# Altium footprint library INFINEON TSFP-4.PCBLIB: 1 footprints
Each footprint in its own frame and in the unit in brackets; x right, y up, seen from the top. Pads: shape width x height; smd on the part's side, far side on the other; paste and mask are expansions set on the pad; w line width, h text height; cw(c..) or ccw(c..) is an arc to the next point about the centre after c.
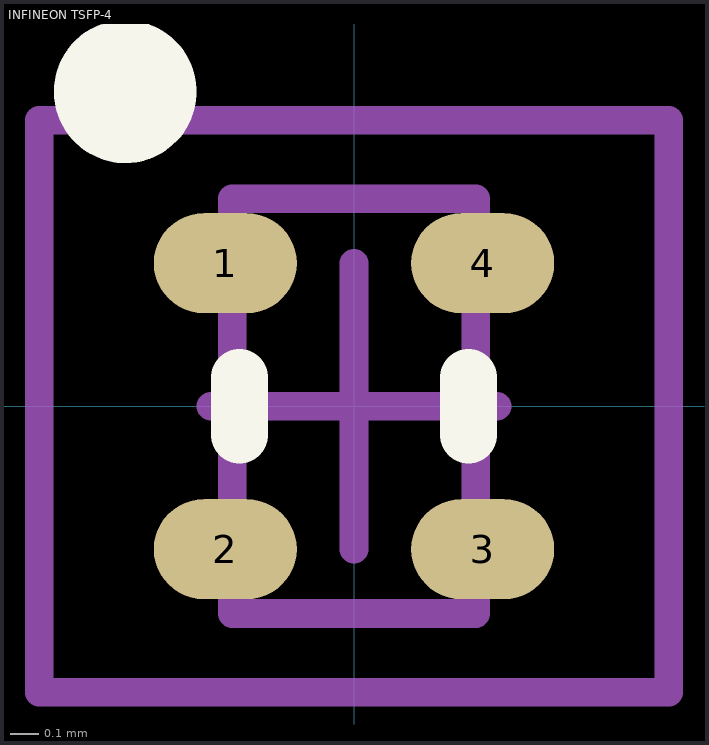
[diagram p0: the footprint, top view; thin cyan lines are the x and y axes]

## INFINEON TSFP-4 [mm] "TSFP, 4-Leads, Body 1.5x0.9mm (max), Pitch 1.00mm, IPC Medium Density"
pads (4):
  oval 0.5x0.35 smd: 1(-0.45,0.5) 2(-0.45,-0.5) 3(0.45,-0.5) 4(0.45,0.5)
Top Overlay:
  circle w0.25: c-0.8,1.1 r0.125
  lines w0.2: -0.4,-0.1 -0.4,0.1 ; 0.4,-0.1 0.4,0.1
Mechanical 13:
  lines w0.1: -0.425,-0.725 -0.425,0.725 0.425,0.725 0.425,-0.725 -0.425,-0.725
Mechanical 15:
  lines w0.1: -0.5,0 0.5,0 ; 0,-0.5 0,0.5 ; -1.1,-1 -1.1,1 1.1,1 1.1,-1 -1.1,-1
3D body "TSFP-4.STEP": height 0.54, standoff 0, extent -0.6,-0.7 0.6,0.7